# Altium schematic symbol library 2020-07-24_19-35-46.SchLib: 2 symbols
Pins are listed as number, name and electrical type; pins without a type are passive.

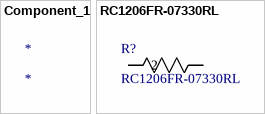
[diagram p0: symbols Component_1 to RC1206FR-07330RL]

## Component_1
designator *

## RC1206FR-07330RL
designator R?
No Description Available; Vendor: Yageo; Built_By: EMA_UL_Team; Manufacturer_Part_Number: RC1206FR-07330RL; Copyright: Copyright (C) 2018 Accelerated Designs. All rights reserved; RefDes: RefDes; Type: DEV
footprint RC1206N
pins: 1, 2